# EAGLE library part VREG_MIC5216 (library SparkFun-PowerIC)
500mA LDO, MSOP8 for better dissipation
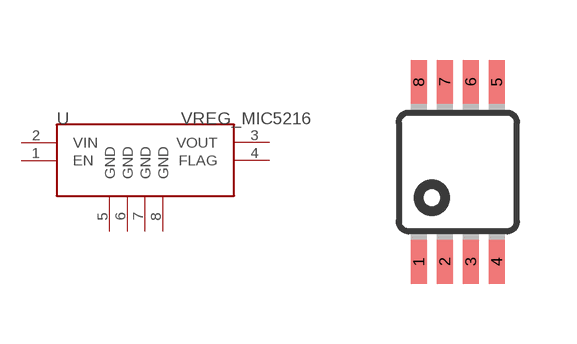
[diagram p1: symbol with the pads of MSOP8; footprint MSOP8]

Designator prefix U

## VREG_MIC5216  [MSOP8]
1  EN
2  VIN
3  VOUT
4  FLAG
5  GND
6  GND
7  GND
8  GND

## Footprint MSOP8 (pad centres in mm)
8M, 8-Lead, 0.118" Wide, Miniature Small Outline Package MSOP 8M-Package doc1097.pdf
smd 0.4 x 1.1: 1 -0.975,-2.25; 2 -0.325,-2.25; 3 0.325,-2.25; 4 0.975,-2.25; 5 0.975,2.25; 6 0.325,2.25; 7 -0.325,2.25; 8 -0.975,2.25